# Altium footprint library Conn.Amphenol.PcbLib: 1 footprints
Each footprint in its own frame and in the unit in brackets; x right, y up, seen from the top. Pads: shape width x height; smd on the part's side, far side on the other; paste and mask are expansions set on the pad; w line width, h text height; cw(c..) or ccw(c..) is an arc to the next point about the centre after c.
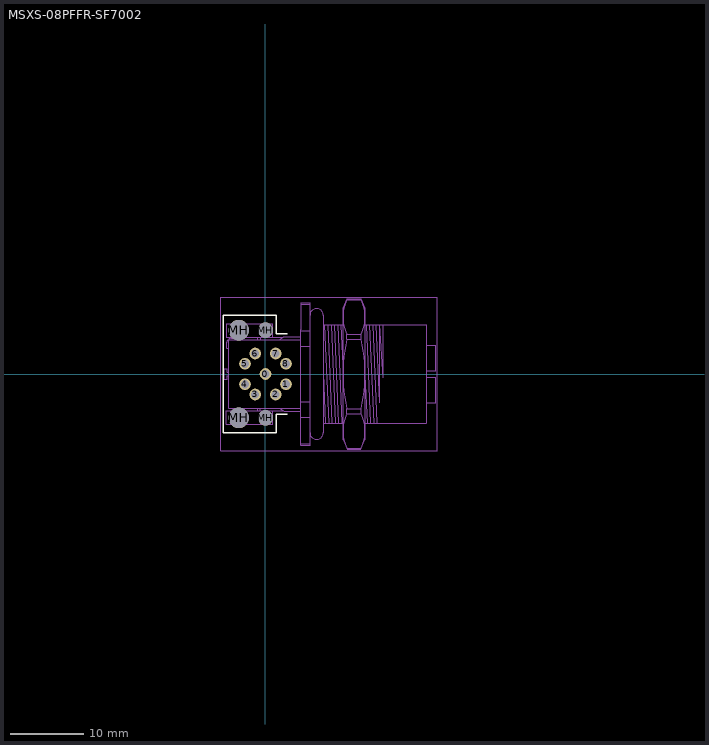
[diagram p0: the footprint, top view; thin cyan lines are the x and y axes]

## MSXS-08PFFR-SF7002 [mm] "Amphenol M Series Circular Connector, 8-Pin, Right-Angled"
pads (13):
  round 1.6 hole 1.1: 0(0,0) 1(2.8,-1.4) 2(1.4,-2.8) 3(-1.4,-2.8) 4(-2.8,-1.4) 5(-2.8,1.4) 6(-1.4,2.8) 7(1.4,2.8) 8(2.8,1.4)
  round 2.8 hole 2.8 unplated: MH(-3.65,-6) MH(-3.65,6)
  round 2.1 hole 2.1 unplated: MH(0,-6) MH(0,6)
Top Overlay:
  lines w0.2: 3,-5.5 1.5,-5.5 1.5,-8 -5.8,-8 -5.8,8 1.5,8 1.5,5.5 3,5.5
Mechanical 1:
  lines w0.05: -5.05,-0.25 -5.2,-0.25 -5.2,-0.7 -5.6,-0.7 -5.6,0.7 -5.2,0.7 -5.2,0.25 -5.05,0.25 ; -5.05,3.5 -5.3,3.5 -5.3,4.325 cw(c-4.975,4.325) -5.05,4.641 ; -5.041,4.65 -5.05,4.65 -5.05,-4.65 4.8,-4.65 ; -4.693,5 -5.374,5 -5.374,6.9 -4.693,6.9 ; -4.692,-6.9 -5.374,-6.9 -5.374,-5 -4.692,-5 ; -3.902,4.65 -3.902,4.9 -4.725,4.9 ccw(c-4.725,4.575) -5.041,4.65 -4.731,4.65 cw(c-4.725,4.575) -4.725,4.65 4.8,4.65 ; -1.03,-5 -1.03,-4.65 ; -1.03,4.65 -1.03,5 ; -0.729,-5 -0.729,-4.65 ; -0.729,4.65 -0.729,5 ; 1.025,-5 1.025,-6.9 -4.685,-6.9 -4.685,-5 2.42,-5 ; 1.025,5 1.025,6.9 -4.685,6.9 -4.685,5 2.407,5 ; 1.9,-4.65 1.9,-4.7 2,-4.758 2.535,-5.066 2.593,-5.1 4.8,-5.1 ; 1.9,4.65 1.9,4.707 1.987,4.758 2.522,5.067 2.58,5.1 4.8,5.1 ; 4.8,-9.526 6.1,-9.526 ; 4.8,-5.882 6.1,-5.882 ; 4.8,-3.793 6.1,-3.793 ; 4.8,3.793 6.1,3.793 ; 4.8,5.882 6.1,5.882 ; 4.8,9.526 6.1,9.526 ; 6.1,-8.05 ccw(c7,-8.05) 7.9,-8.05 7.9,8.05 ccw(c7,8.05) 6.1,8.05 ; 7.9,-6.75 8.187,-6.747 ; 7.9,0.075 8.187,-6.748 ; 7.9,6.75 8.067,6.75 ; 10.6,-6.749 10.427,-6.747 ; 10.6,6.75 10.308,6.75 ; 10.6,-0.201 10.308,6.75 ; 13.6,-6.748 13.877,-6.748 ; 13.6,-0.15 13.877,-6.748 ; 13.6,6.75 13.758,6.75 ; 22,-3.96 23.3,-3.96 23.3,-0.44 22,-0.44 ; 22,0.44 23.3,0.44 23.3,3.96 22,3.96 ; 8.067,6.75 8.635,-6.748 ; 8.067,6.75 8.515,6.75 ; 8.187,-6.748 8.635,-6.748 ; 8.515,6.75 9.083,-6.748 ; 8.515,6.75 8.964,6.75 ; 8.635,-6.748 9.083,-6.748 ; 8.964,6.75 9.531,-6.748 ; 8.964,6.75 9.412,6.75 ; 9.083,-6.748 9.531,-6.748 ; 9.412,6.75 9.979,-6.748 ; 9.412,6.75 9.86,6.75 ; 9.531,-6.748 9.979,-6.748 ; 9.86,6.75 10.427,-6.748 ; 9.86,6.75 10.308,6.75 ; 9.979,-6.748 10.427,-6.748 ; 11.104,-5.427 ccw(c16.439,-7.794) 11.104,-10.161 13.096,-10.161 ccw(c7.761,-7.794) 13.096,-5.427 ; 11.104,-5.427 11.104,-4.734 ; 11.104,-5.427 13.096,-5.427 ; 11.104,-4.734 cw(c33.093,0) 11.104,4.734 ; 11.104,-4.734 13.096,-4.734 ; 11.104,4.734 11.104,5.427 ; 11.104,4.734 13.096,4.734 ; 11.104,5.427 cw(c16.439,7.794) 11.104,10.161 13.096,10.161 cw(c7.761,7.794) 13.096,5.427 ; 11.104,5.427 13.096,5.427 ; 13.096,-5.427 13.096,-4.734 ; 13.096,-4.734 ccw(c-8.893,0) 13.096,4.734 ; 13.096,4.734 13.096,5.427 ; 13.758,6.75 14.326,-6.748 ; 13.758,6.75 14.206,6.75 ; 13.877,-6.748 14.326,-6.748 ; 14.206,6.75 14.654,6.75 ; 14.206,6.75 14.774,-6.748 ; 14.326,-6.748 14.774,-6.748 ; 14.654,6.75 15.102,6.75 ; 14.654,6.75 15.222,-6.748 ; 14.774,-6.748 15.222,-6.748 ; 15.102,6.75 15.55,6.75 ; 15.102,6.75 15.55,-3.905 15.55,6.75 ; 15.222,-6.748 15.792,-6.75 22,-6.75 22,6.75 15.998,6.75 ; 15.55,6.75 15.998,-0.502 15.998,6.75 ; 15.55,6.75 15.998,6.75 ; 4.8,-9.75 6.1,-9.75 6.1,9.75 4.8,9.75 4.8,6.025 4.8,-9.75 ; 10.6,-9 10.6,9 11.148,10.271 13.052,10.271 13.6,9 13.6,-9 13.052,-10.271 11.148,-10.271 10.6,-9
Mechanical 15:
  lines w0.05: -6.1,-10.5 -6.1,10.5 23.5,10.5 23.5,-10.5 -6.1,-10.5
  lines w0.1: -0.5,0 0.5,0 ; 0,-0.5 0,0.5
3D body "msxs-08pffr-sf7002.STEP": height 17.5, standoff -4.8, extent -5.6,-10.267 23.3,10.267